# Altium schematic symbol library Cap_Wurth_Electronics_885012206075_470nF.SchLib: 1 symbol
Pins are listed as number, name and electrical type; pins without a type are passive.

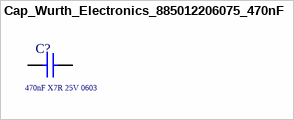
[diagram p0: symbol Cap_Wurth_Electronics_885012206075_470nF]

## Cap_Wurth_Electronics_885012206075_470nF
designator C?  Capacitance: 470nF X7R 25V 0603  (hidden comment: Cap_Wurth_Electronics_885012206075_470nF)
CAP CER 470nF 25V X7R 0603; Supplier 1: Mouser; Supplier Part Number 1: 710-885012206075
footprint Cap_Wurth_Electronics_885012206075_470nF
pins: 1, 2